# Altium footprint library my_library.PcbLib: 18 footprints (part 1 of 2)
Each footprint in its own frame and in the unit in brackets; x right, y up, seen from the top. Pads: shape width x height; smd on the part's side, far side on the other; paste and mask are expansions set on the pad; w line width, h text height; cw(c..) or ccw(c..) is an arc to the next point about the centre after c.
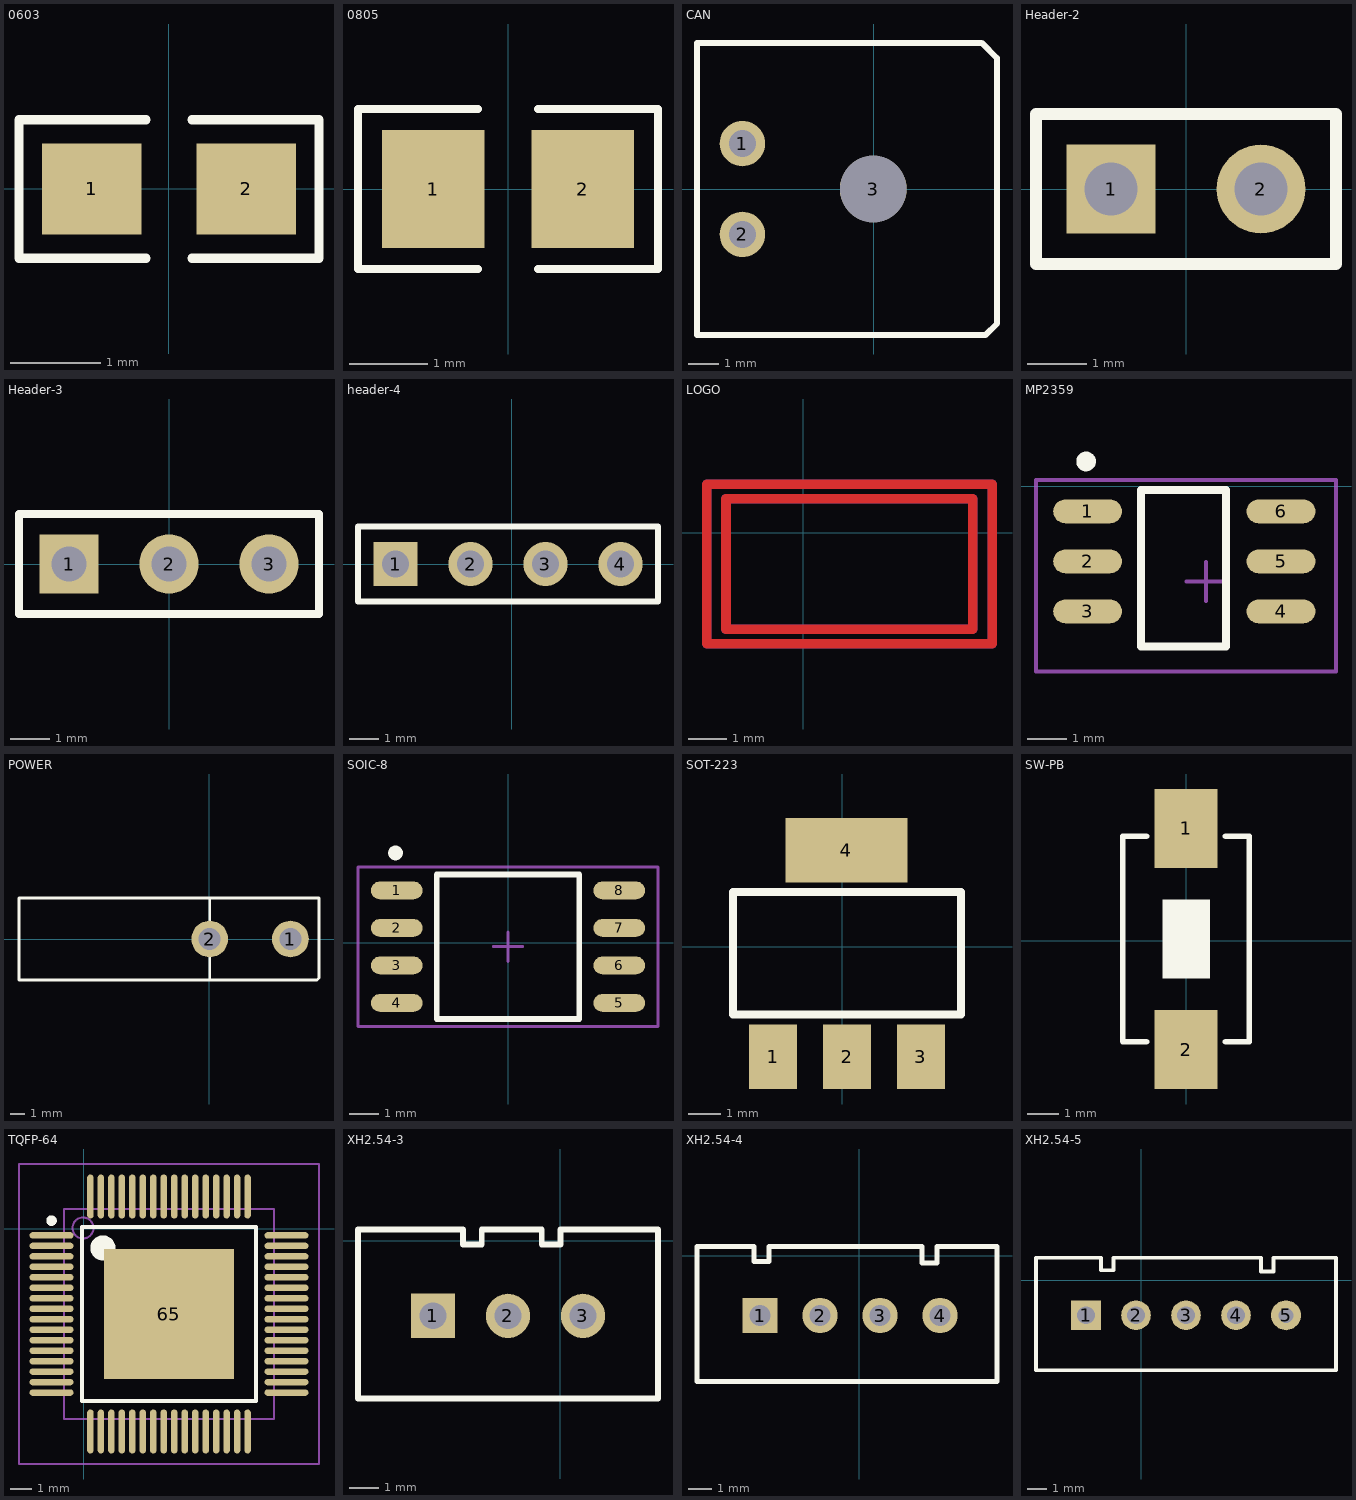
[diagram p0: the footprints below, top view; thin cyan lines are the x and y axes]

## 0603 [mm]
pads (2):
  rect 1.1x1 smd: 1(-0.85,0) 2(0.85,0)
Top Overlay:
  lines w0.1: -0.254,-0.762 -1.651,-0.762 -1.651,0.762 -0.254,0.762 ; 0.254,-0.762 1.651,-0.762 1.651,0.762 0.254,0.762
3D body: height 1, standoff 0, extent -1.143,-0.381 1.143,0.381

## 0805 [mm]
pads (2):
  rect 1.3x1.5 smd: 1(-0.95,0) 2(0.95,0)
Top Overlay:
  lines w0.1: -0.381,-1.016 -1.905,-1.016 -1.905,1.016 -0.381,1.016 ; 0.381,-1.016 1.905,-1.016 1.905,1.016 0.381,1.016
3D body: height 1, standoff 0, extent -1.016,-0.508 1.016,0.508
3D body: height 1, standoff 0, extent 1.016,-0.508 1.143,0.508
3D body: height 1, standoff 0, extent -1.143,-0.508 -1.016,0.508

## CAN [mm]
pads (3):
  round 1.5 hole 0.9: 1(-4.342,1.5) 2(-4.342,-1.5)
  round 2.2 hole 2.2: 3(-0.022,0)
Top Overlay:
  lines w0.2: -5.842,-4.826 -5.842,4.826 3.556,4.826 4.064,4.318 4.064,-4.445 3.683,-4.826 -5.842,-4.826

## Header-2 [mm]
pads (2):
  rect 1.5x1.5 hole 0.9: 1(-1.27,0)
  round 1.5 hole 0.9: 2(1.27,0)
Top Overlay:
  lines w0.2: -2.54,-1.27 -2.54,1.27 2.54,1.27 2.54,-1.27 -2.54,-1.27

## Header-3 [mm]
pads (3):
  rect 1.5x1.5 hole 0.9: 1(-2.54,0)
  round 1.5 hole 0.9: 2(0,0) 3(2.54,0)
Top Overlay:
  lines w0.2: -3.81,-1.27 3.81,-1.27 3.81,1.27 -3.81,1.27 -3.81,-1.27

## header-4 [mm]
pads (4):
  rect 1.5x1.5 hole 0.9: 1(-3.937,0)
  round 1.5 hole 0.9: 2(-1.397,0) 3(1.143,0) 4(3.683,0)
Top Overlay:
  lines w0.2: -5.207,-1.27 -5.207,1.27 4.953,1.27 4.953,-1.27 -5.207,-1.27

## LOGO [mm]
Top Layer:
  lines w0.254: -2.54,-2.921 -2.54,1.016 -2.54,1.27 4.953,1.27 4.953,-2.921 -2.54,-2.921 ; -2.032,-2.54 -2.032,0.889 4.445,0.889 4.445,-2.54 -2.032,-2.54
  text "N W P U" at -1.27,-0.381 h0.76
  text "RESCUE" at -1.27,-1.905 h0.76
Bottom Layer:
  lines w0.254: -2.54,-2.921 -2.54,1.27 4.953,1.27 4.953,-2.921 -2.54,-2.921 ; -2.032,-2.54 -2.032,0.889 4.445,0.889 4.445,-2.54 -2.032,-2.54
  text "N W P U" at -1.27,-0.381 h0.76
  text "RESCUE" at -1.27,-1.905 h0.76
Top Solder:
  rectangle: -2.794,-3.048 5.08,1.397
Bottom Solder:
  rectangle: -2.794,-3.048 5.08,1.397

## MP2359 [mm]
pads (6):
  oval 1.75x0.6 smd: 1(-7.578,-0.635) 2(-7.578,-1.905) 3(-7.578,-3.175) 4(-2.667,-3.175) 5(-2.667,-1.905) 6(-2.667,-0.635)
Top Overlay:
  circle w0.25: c-7.618,0.635 r0.125
  lines w0.2: -6.223,-4.064 -4.064,-4.064 -4.064,-0.09 -6.223,-0.09 -6.223,-4.064
Mechanical 15:
  lines w0.1: -5.072,-2.413 -4.072,-2.413 ; -4.572,-2.913 -4.572,-1.913 ; -8.89,-4.699 -1.27,-4.699 -1.27,0.16 -8.89,0.16 -8.89,-4.699

## POWER [mm]
pads (2):
  round 2.5 hole 1.5: 1(5.546,0) 2(0.046,0)
Top Overlay:
  lines w0.2: 0.046,-2.8 -12.954,-2.8 -12.954,2.8 0.046,2.8 ; 0.046,-2.8 0.046,2.8 ; 0.046,-2.8 7.36,-2.8 7.493,-2.667 7.493,2.794 7.487,2.8 0.046,2.8

## SOIC-8 [mm]
pads (8):
  oval 1.75x0.6 smd: 1(-3.768,1.778) 2(-3.768,0.508) 3(-3.768,-0.762) 4(-3.768,-2.032) 5(3.768,-2.032) 6(3.768,-0.762) 7(3.768,0.508) 8(3.768,1.778)
Top Overlay:
  circle w0.25: c-3.808,3.048 r0.125
  lines w0.2: -2.413,-2.577 -2.413,2.323 2.413,2.323 2.413,-2.577 -2.413,-2.577
Mechanical 15:
  lines w0.1: -0.5,-0.127 0.5,-0.127 ; 0,-0.627 0,0.373 ; -5.08,-2.827 -5.08,2.573 5.08,2.573 5.08,-2.827 -5.08,-2.827

## SOT-223 [mil]
pads (4):
  rect 59x79 smd: 1(-85,-135) 2(5.55,-135) 3(96.1,-135)
  rect 150x79 smd: 4(4.88,118.54)
Top Overlay:
  lines w10: -134.45,-83 145.55,-83 145.55,67 -134.45,67 -134.45,-83

## SW-PB [mm]
pads (2):
  rect 2x2.5 smd: 1(0,3.556) 2(0,-3.444)
Top Overlay:
  region: -0.747,1.309 -0.747,-1.191 0.753,-1.191 0.753,1.309
  lines w0.178: -1.25,-3.194 -2,-3.19 -2,3.306 -1.25,3.306 ; 1.25,-3.194 2,-3.194 2,3.306 1.25,3.306
3D body: height 1.2, standoff 0.8, extent -0.762,-1.143 0.762,1.27
3D body: height 0.8, standoff 0, extent -2.032,-3.175 2.032,3.302

## TQFP-64 [mm]
pads (65):
  oval 2.1x0.3 smd: 1(-1.536,-0.314) 2(-1.536,-0.814) 3(-1.536,-1.314) 4(-1.536,-1.814) 5(-1.536,-2.314) 6(-1.536,-2.814) 7(-1.536,-3.314) 8(-1.536,-3.814) 9(-1.536,-4.314) 10(-1.536,-4.814) 11(-1.536,-5.314) 12(-1.536,-5.814) 13(-1.536,-6.314) 14(-1.536,-6.814) 15(-1.536,-7.314) 16(-1.536,-7.814) 33(9.664,-7.814) 34(9.664,-7.314) 35(9.664,-6.814) 36(9.664,-6.314) 37(9.664,-5.814) 38(9.664,-5.314) 39(9.664,-4.814) 40(9.664,-4.314) 41(9.664,-3.814) 42(9.664,-3.314) 43(9.664,-2.814) 44(9.664,-2.314) 45(9.664,-1.814) 46(9.664,-1.314) 47(9.664,-0.814) 48(9.664,-0.314)
  oval 0.3x2.1 smd: 17(0.314,-9.664) 18(0.814,-9.664) 19(1.314,-9.664) 20(1.814,-9.664) 21(2.314,-9.664) 22(2.814,-9.664) 23(3.314,-9.664) 24(3.814,-9.664) 25(4.314,-9.664) 26(4.814,-9.664) 27(5.314,-9.664) 28(5.814,-9.664) 29(6.314,-9.664) 30(6.814,-9.664) 31(7.314,-9.664) 32(7.814,-9.664) 49(7.814,1.536) 50(7.314,1.536) 51(6.814,1.536) 52(6.314,1.536) 53(5.814,1.536) 54(5.314,1.536) 55(4.814,1.536) 56(4.314,1.536) 57(3.814,1.536) 58(3.314,1.536) 59(2.814,1.536) 60(2.314,1.536) 61(1.814,1.536) 62(1.314,1.536) 63(0.814,1.536) 64(0.314,1.536)
  rect 6.2x6.2 smd: 65(4.064,-4.064)
Top Overlay:
  circle w0.6: c0.914,-0.914 r0.3
  circle w0.25: c-1.536,0.386 r0.125
  lines w0.2: -0.086,-8.214 8.214,-8.214 8.214,0.086 -0.086,0.086 -0.086,-8.214
Mechanical 13:
  circle w0.1: c-0.036,0.036 r0.5
  lines w0.1: -0.936,-9.064 9.064,-9.064 9.064,0.936 -0.936,0.936 -0.936,-9.064
Mechanical 15:
  lines w0.1: 3.564,-4.064 4.564,-4.064 ; 4.064,-4.564 4.064,-3.564 ; -3.086,-11.214 11.214,-11.214 11.214,3.086 -3.086,3.086 -3.086,-11.214
3D body: height 1.2, standoff 0, extent -0.936,-9.064 9.064,0.936

## XH2.54-3 [mm]
pads (3):
  rect 1.5x1.5 hole 0.9: 1(-4.318,-2.54)
  round 1.5 hole 0.9: 2(-1.778,-2.54) 3(0.762,-2.54)
Top Overlay:
  lines w0.2: -6.858,-5.334 3.302,-5.334 3.302,0.381 0,0.381 0,-0.127 -0.635,-0.127 -0.635,0.381 -2.667,0.381 -2.667,-0.127 -3.302,-0.127 -3.302,0.381 -6.858,0.381 -6.858,-5.334

## XH2.54-4 [mm]
pads (4):
  rect 1.5x1.5 hole 0.9: 1(-4.191,-2.54)
  round 1.5 hole 0.9: 2(-1.651,-2.54) 3(0.889,-2.54) 4(3.429,-2.54)
Top Overlay:
  lines w0.2: 2.667,0.318 2.667,-0.318 3.302,-0.318 3.302,0.318 ; 2.667,0.381 -3.81,0.381 -3.81,-0.254 -4.445,-0.254 -4.445,0.381 -6.858,0.381 -6.858,-5.334 5.842,-5.334 5.842,0.381 3.302,0.381

## XH2.54-5 [mil]
pads (5):
  rect 59.06x59.06 hole 35.43: 1(-110,-70)
  round 59.06 hole 35.43: 2(-10,-70) 3(90,-70) 4(190,-70)
  round 60 hole 30: 5(290,-70)
Top Overlay:
  lines w7.87: 240,42.5 240,17.5 265,17.5 265,42.5 ; 240,45 -55,45 -55,20 -80,20 -80,45 -210,45 -210,-180 390,-180 390,45 265,45